# Altium schematic symbol library GENERIC_PNP_BCE.Schlib: 1 symbol
Pins are listed as number, name and electrical type; pins without a type are passive.

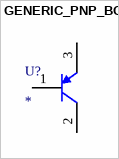
[diagram p0: symbol GENERIC_PNP_BCE]

## GENERIC_PNP_BCE
designator U?
pins: 1 B, 2 C, 3 E